# Altium footprint library HARTING Footprints.PcbLib: 317 footprints (part 4 of 20)
Each footprint in its own frame and in the unit in brackets; x right, y up, seen from the top. Pads: shape width x height; smd on the part's side, far side on the other; paste and mask are expansions set on the pad; w line width, h text height; cw(c..) or ccw(c..) is an arc to the next point about the centre after c.
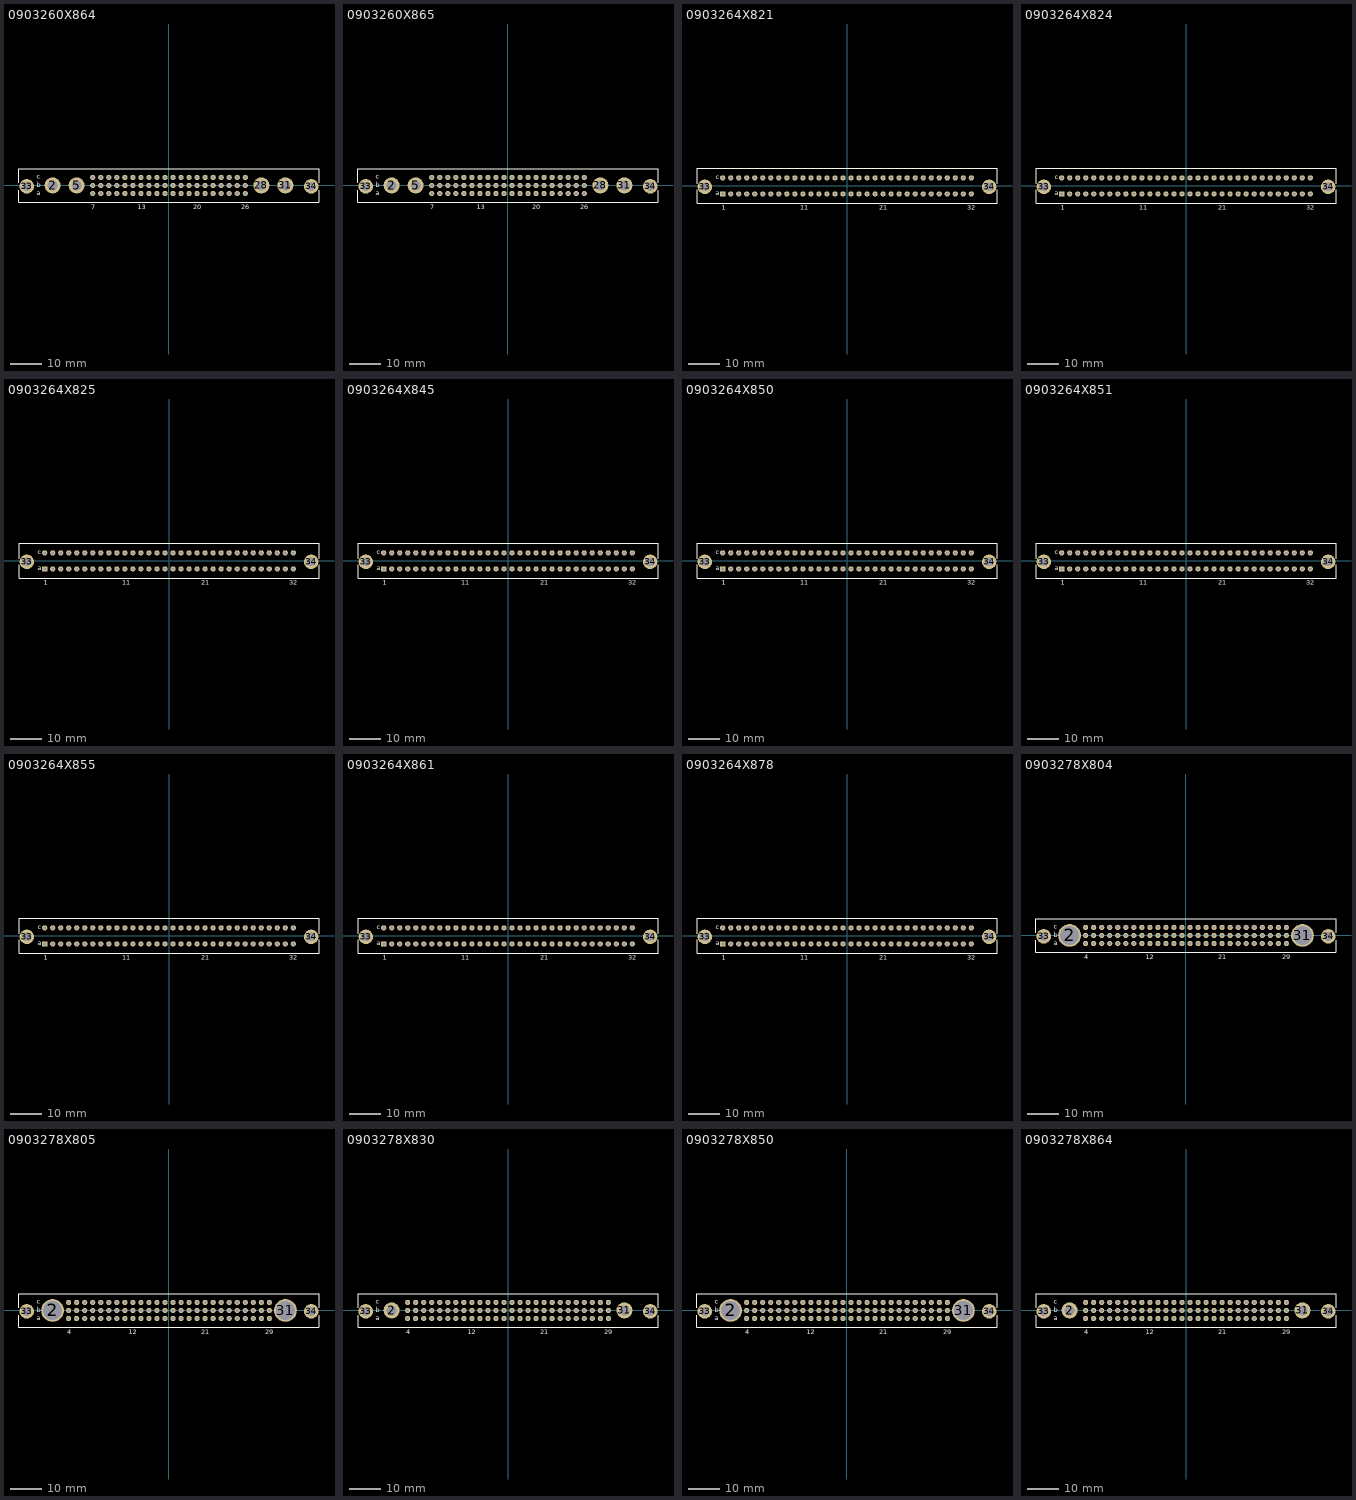
[diagram p3: the footprints below, top view; thin cyan lines are the x and y axes]

## 0903260X864 [mm] "Connector; DIN 41612, Type M-Flat, Thru-Hole; Rows a+b+c, 60 Position; Vertical"
height 12.6
pads (66):
  round 5.1 hole 3.1: 2(-36.83,0) 5(-29.21,0) 28(29.21,0) 31(36.83,0)
  round 4.6 hole 2.8: 33(-45,-0.3) 34(45,-0.3)
  round 1.65 hole 1: A7(-24.13,-2.54) A8(-21.59,-2.54) A9(-19.05,-2.54) A10(-16.51,-2.54) A11(-13.97,-2.54) A12(-11.43,-2.54) A13(-8.89,-2.54) A14(-6.35,-2.54) A15(-3.81,-2.54) A16(-1.27,-2.54) A17(1.27,-2.54) A18(3.81,-2.54) A19(6.35,-2.54) A20(8.89,-2.54) A21(11.43,-2.54) A22(13.97,-2.54) A23(16.51,-2.54) A24(19.05,-2.54) A25(21.59,-2.54) A26(24.13,-2.54) B7(-24.13,0) B8(-21.59,0) B9(-19.05,0) B10(-16.51,0) B11(-13.97,0) B12(-11.43,0) B13(-8.89,0) B14(-6.35,0) B15(-3.81,0) B16(-1.27,0) B17(1.27,0) B18(3.81,0) B19(6.35,0) B20(8.89,0) B21(11.43,0) B22(13.97,0) B23(16.51,0) B24(19.05,0) B25(21.59,0) B26(24.13,0) C7(-24.13,2.54) C8(-21.59,2.54) C9(-19.05,2.54) C10(-16.51,2.54) C11(-13.97,2.54) C12(-11.43,2.54) C13(-8.89,2.54) C14(-6.35,2.54) C15(-3.81,2.54) C16(-1.27,2.54) C17(1.27,2.54) C18(3.81,2.54) C19(6.35,2.54) C20(8.89,2.54) C21(11.43,2.54) C22(13.97,2.54) C23(16.51,2.54) C24(19.05,2.54) C25(21.59,2.54) C26(24.13,2.54)
Top Overlay:
  lines w0.2: -47.45,-1.5 -47.45,-5.25 47.45,-5.25 47.45,-1.5 ; -47.45,0.9 -47.45,5.25 47.45,5.25 47.45,0.9
  text "20" at 7.64,-7.5 h1.5
  text "13" at -9.89,-7.5 h1.5
  text "26" at 22.88,-7.5 h1.5
  text "c" at -41.88,2.04 h1.5
  text "b" at -41.88,-0.5 h1.5
  text "a" at -41.88,-3.04 h1.5
  text "7" at -24.63,-7.5 h1.5

## 0903260X865 [mm] "Connector; DIN 41612, Type M-Flat, Thru-Hole; Rows a+b+c, 60 Position; Vertical"
height 12.6
pads (66):
  round 5.1 hole 3.1: 2(-36.83,0) 5(-29.21,0) 28(29.21,0) 31(36.83,0)
  round 4.6 hole 2.8: 33(-45,-0.3) 34(45,-0.3)
  round 1.65 hole 1: A7(-24.13,-2.54) A8(-21.59,-2.54) A9(-19.05,-2.54) A10(-16.51,-2.54) A11(-13.97,-2.54) A12(-11.43,-2.54) A13(-8.89,-2.54) A14(-6.35,-2.54) A15(-3.81,-2.54) A16(-1.27,-2.54) A17(1.27,-2.54) A18(3.81,-2.54) A19(6.35,-2.54) A20(8.89,-2.54) A21(11.43,-2.54) A22(13.97,-2.54) A23(16.51,-2.54) A24(19.05,-2.54) A25(21.59,-2.54) A26(24.13,-2.54) B7(-24.13,0) B8(-21.59,0) B9(-19.05,0) B10(-16.51,0) B11(-13.97,0) B12(-11.43,0) B13(-8.89,0) B14(-6.35,0) B15(-3.81,0) B16(-1.27,0) B17(1.27,0) B18(3.81,0) B19(6.35,0) B20(8.89,0) B21(11.43,0) B22(13.97,0) B23(16.51,0) B24(19.05,0) B25(21.59,0) B26(24.13,0) C7(-24.13,2.54) C8(-21.59,2.54) C9(-19.05,2.54) C10(-16.51,2.54) C11(-13.97,2.54) C12(-11.43,2.54) C13(-8.89,2.54) C14(-6.35,2.54) C15(-3.81,2.54) C16(-1.27,2.54) C17(1.27,2.54) C18(3.81,2.54) C19(6.35,2.54) C20(8.89,2.54) C21(11.43,2.54) C22(13.97,2.54) C23(16.51,2.54) C24(19.05,2.54) C25(21.59,2.54) C26(24.13,2.54)
Top Overlay:
  lines w0.2: -47.45,-1.5 -47.45,-5.25 47.45,-5.25 47.45,-1.5 ; -47.45,0.9 -47.45,5.25 47.45,5.25 47.45,0.9
  text "20" at 7.64,-7.5 h1.5
  text "13" at -9.89,-7.5 h1.5
  text "26" at 22.88,-7.5 h1.5
  text "c" at -41.88,2.04 h1.5
  text "b" at -41.88,-0.5 h1.5
  text "a" at -41.88,-3.04 h1.5
  text "7" at -24.63,-7.5 h1.5

## 0903264X821 [mm] "Connector; DIN 41612, Type C, Thru-Hole; Rows a+c, 64 Position; Vertical"
height 11.6
pads (66):
  round 4.6 hole 2.8: 33(-45,-0.3) 34(45,-0.3)
  rect 1.65x1.65 hole 1: A1(-39.37,-2.54)
  round 1.65 hole 1: A2(-36.83,-2.54) A3(-34.29,-2.54) A4(-31.75,-2.54) A5(-29.21,-2.54) A6(-26.67,-2.54) A7(-24.13,-2.54) A8(-21.59,-2.54) A9(-19.05,-2.54) A10(-16.51,-2.54) A11(-13.97,-2.54) A12(-11.43,-2.54) A13(-8.89,-2.54) A14(-6.35,-2.54) A15(-3.81,-2.54) A16(-1.27,-2.54) A17(1.27,-2.54) A18(3.81,-2.54) A19(6.35,-2.54) A20(8.89,-2.54) A21(11.43,-2.54) A22(13.97,-2.54) A23(16.51,-2.54) A24(19.05,-2.54) A25(21.59,-2.54) A26(24.13,-2.54) A27(26.67,-2.54) A28(29.21,-2.54) A29(31.75,-2.54) A30(34.29,-2.54) A31(36.83,-2.54) A32(39.37,-2.54) C1(-39.37,2.54) C2(-36.83,2.54) C3(-34.29,2.54) C4(-31.75,2.54) C5(-29.21,2.54) C6(-26.67,2.54) C7(-24.13,2.54) C8(-21.59,2.54) C9(-19.05,2.54) C10(-16.51,2.54) C11(-13.97,2.54) C12(-11.43,2.54) C13(-8.89,2.54) C14(-6.35,2.54) C15(-3.81,2.54) C16(-1.27,2.54) C17(1.27,2.54) C18(3.81,2.54) C19(6.35,2.54) C20(8.89,2.54) C21(11.43,2.54) C22(13.97,2.54) C23(16.51,2.54) C24(19.05,2.54) C25(21.59,2.54) C26(24.13,2.54) C27(26.67,2.54) C28(29.21,2.54) C29(31.75,2.54) C30(34.29,2.54) C31(36.83,2.54) C32(39.37,2.54)
Top Overlay:
  lines w0.2: -47.5,-1.3 -47.5,-5.55 47.5,-5.55 47.5,-1.3 ; -47.5,0.7 -47.5,5.55 47.5,5.55 47.5,0.7
  text "21" at 10.18,-7.525 h1.5
  text "11" at -14.82,-7.525 h1.5
  text "32" at 38.12,-7.525 h1.5
  text "c" at -41.58,2.04 h1.5
  text "a" at -41.58,-3.04 h1.5
  text "1" at -39.62,-7.525 h1.5

## 0903264X824 [mm] "Connector; DIN 41612, Type C, Thru-Hole; Rows a+c, 64 Position; Vertical"
height 11.6
pads (66):
  round 4.6 hole 2.8: 33(-45,-0.3) 34(45,-0.3)
  rect 1.65x1.65 hole 1: A1(-39.37,-2.54)
  round 1.65 hole 1: A2(-36.83,-2.54) A3(-34.29,-2.54) A4(-31.75,-2.54) A5(-29.21,-2.54) A6(-26.67,-2.54) A7(-24.13,-2.54) A8(-21.59,-2.54) A9(-19.05,-2.54) A10(-16.51,-2.54) A11(-13.97,-2.54) A12(-11.43,-2.54) A13(-8.89,-2.54) A14(-6.35,-2.54) A15(-3.81,-2.54) A16(-1.27,-2.54) A17(1.27,-2.54) A18(3.81,-2.54) A19(6.35,-2.54) A20(8.89,-2.54) A21(11.43,-2.54) A22(13.97,-2.54) A23(16.51,-2.54) A24(19.05,-2.54) A25(21.59,-2.54) A26(24.13,-2.54) A27(26.67,-2.54) A28(29.21,-2.54) A29(31.75,-2.54) A30(34.29,-2.54) A31(36.83,-2.54) A32(39.37,-2.54) C1(-39.37,2.54) C2(-36.83,2.54) C3(-34.29,2.54) C4(-31.75,2.54) C5(-29.21,2.54) C6(-26.67,2.54) C7(-24.13,2.54) C8(-21.59,2.54) C9(-19.05,2.54) C10(-16.51,2.54) C11(-13.97,2.54) C12(-11.43,2.54) C13(-8.89,2.54) C14(-6.35,2.54) C15(-3.81,2.54) C16(-1.27,2.54) C17(1.27,2.54) C18(3.81,2.54) C19(6.35,2.54) C20(8.89,2.54) C21(11.43,2.54) C22(13.97,2.54) C23(16.51,2.54) C24(19.05,2.54) C25(21.59,2.54) C26(24.13,2.54) C27(26.67,2.54) C28(29.21,2.54) C29(31.75,2.54) C30(34.29,2.54) C31(36.83,2.54) C32(39.37,2.54)
Top Overlay:
  lines w0.2: -47.5,-1.3 -47.5,-5.55 47.5,-5.55 47.5,-1.3 ; -47.5,0.7 -47.5,5.55 47.5,5.55 47.5,0.7
  text "21" at 10.18,-7.525 h1.5
  text "11" at -14.82,-7.525 h1.5
  text "32" at 38.12,-7.525 h1.5
  text "c" at -41.58,2.04 h1.5
  text "a" at -41.58,-3.04 h1.5
  text "1" at -39.62,-7.525 h1.5

## 0903264X825 [mm] "Connector; DIN 41612, Type C, Thru-Hole; Rows a+c, 64 Position; Vertical"
height 11.6
pads (66):
  round 4.6 hole 2.8: 33(-45,-0.3) 34(45,-0.3)
  rect 1.65x1.65 hole 1: A1(-39.37,-2.54)
  round 1.65 hole 1: A2(-36.83,-2.54) A3(-34.29,-2.54) A4(-31.75,-2.54) A5(-29.21,-2.54) A6(-26.67,-2.54) A7(-24.13,-2.54) A8(-21.59,-2.54) A9(-19.05,-2.54) A10(-16.51,-2.54) A11(-13.97,-2.54) A12(-11.43,-2.54) A13(-8.89,-2.54) A14(-6.35,-2.54) A15(-3.81,-2.54) A16(-1.27,-2.54) A17(1.27,-2.54) A18(3.81,-2.54) A19(6.35,-2.54) A20(8.89,-2.54) A21(11.43,-2.54) A22(13.97,-2.54) A23(16.51,-2.54) A24(19.05,-2.54) A25(21.59,-2.54) A26(24.13,-2.54) A27(26.67,-2.54) A28(29.21,-2.54) A29(31.75,-2.54) A30(34.29,-2.54) A31(36.83,-2.54) A32(39.37,-2.54) C1(-39.37,2.54) C2(-36.83,2.54) C3(-34.29,2.54) C4(-31.75,2.54) C5(-29.21,2.54) C6(-26.67,2.54) C7(-24.13,2.54) C8(-21.59,2.54) C9(-19.05,2.54) C10(-16.51,2.54) C11(-13.97,2.54) C12(-11.43,2.54) C13(-8.89,2.54) C14(-6.35,2.54) C15(-3.81,2.54) C16(-1.27,2.54) C17(1.27,2.54) C18(3.81,2.54) C19(6.35,2.54) C20(8.89,2.54) C21(11.43,2.54) C22(13.97,2.54) C23(16.51,2.54) C24(19.05,2.54) C25(21.59,2.54) C26(24.13,2.54) C27(26.67,2.54) C28(29.21,2.54) C29(31.75,2.54) C30(34.29,2.54) C31(36.83,2.54) C32(39.37,2.54)
Top Overlay:
  lines w0.2: -47.5,-1.3 -47.5,-5.55 47.5,-5.55 47.5,-1.3 ; -47.5,0.7 -47.5,5.55 47.5,5.55 47.5,0.7
  text "21" at 10.18,-7.525 h1.5
  text "11" at -14.82,-7.525 h1.5
  text "32" at 38.12,-7.525 h1.5
  text "c" at -41.58,2.04 h1.5
  text "a" at -41.58,-3.04 h1.5
  text "1" at -39.62,-7.525 h1.5

## 0903264X845 [mm] "Connector; DIN 41612, Type C, Thru-Hole; Rows a+c, 64 Position; Vertical"
height 11.6
pads (66):
  round 4.6 hole 2.8: 33(-45,-0.3) 34(45,-0.3)
  rect 1.65x1.65 hole 1: A1(-39.37,-2.54)
  round 1.65 hole 1: A2(-36.83,-2.54) A3(-34.29,-2.54) A4(-31.75,-2.54) A5(-29.21,-2.54) A6(-26.67,-2.54) A7(-24.13,-2.54) A8(-21.59,-2.54) A9(-19.05,-2.54) A10(-16.51,-2.54) A11(-13.97,-2.54) A12(-11.43,-2.54) A13(-8.89,-2.54) A14(-6.35,-2.54) A15(-3.81,-2.54) A16(-1.27,-2.54) A17(1.27,-2.54) A18(3.81,-2.54) A19(6.35,-2.54) A20(8.89,-2.54) A21(11.43,-2.54) A22(13.97,-2.54) A23(16.51,-2.54) A24(19.05,-2.54) A25(21.59,-2.54) A26(24.13,-2.54) A27(26.67,-2.54) A28(29.21,-2.54) A29(31.75,-2.54) A30(34.29,-2.54) A31(36.83,-2.54) A32(39.37,-2.54) C1(-39.37,2.54) C2(-36.83,2.54) C3(-34.29,2.54) C4(-31.75,2.54) C5(-29.21,2.54) C6(-26.67,2.54) C7(-24.13,2.54) C8(-21.59,2.54) C9(-19.05,2.54) C10(-16.51,2.54) C11(-13.97,2.54) C12(-11.43,2.54) C13(-8.89,2.54) C14(-6.35,2.54) C15(-3.81,2.54) C16(-1.27,2.54) C17(1.27,2.54) C18(3.81,2.54) C19(6.35,2.54) C20(8.89,2.54) C21(11.43,2.54) C22(13.97,2.54) C23(16.51,2.54) C24(19.05,2.54) C25(21.59,2.54) C26(24.13,2.54) C27(26.67,2.54) C28(29.21,2.54) C29(31.75,2.54) C30(34.29,2.54) C31(36.83,2.54) C32(39.37,2.54)
Top Overlay:
  lines w0.2: -47.5,-1.3 -47.5,-5.55 47.5,-5.55 47.5,-1.3 ; -47.5,0.7 -47.5,5.55 47.5,5.55 47.5,0.7
  text "21" at 10.18,-7.525 h1.5
  text "11" at -14.82,-7.525 h1.5
  text "32" at 38.12,-7.525 h1.5
  text "c" at -41.58,2.04 h1.5
  text "a" at -41.58,-3.04 h1.5
  text "1" at -39.62,-7.525 h1.5

## 0903264X850 [mm] "Connector; DIN 41612, Type C, Thru-Hole; Rows a+c, 64 Position; Vertical"
height 11.6
pads (66):
  round 4.6 hole 2.8: 33(-45,-0.3) 34(45,-0.3)
  rect 1.65x1.65 hole 1: A1(-39.37,-2.54)
  round 1.65 hole 1: A2(-36.83,-2.54) A3(-34.29,-2.54) A4(-31.75,-2.54) A5(-29.21,-2.54) A6(-26.67,-2.54) A7(-24.13,-2.54) A8(-21.59,-2.54) A9(-19.05,-2.54) A10(-16.51,-2.54) A11(-13.97,-2.54) A12(-11.43,-2.54) A13(-8.89,-2.54) A14(-6.35,-2.54) A15(-3.81,-2.54) A16(-1.27,-2.54) A17(1.27,-2.54) A18(3.81,-2.54) A19(6.35,-2.54) A20(8.89,-2.54) A21(11.43,-2.54) A22(13.97,-2.54) A23(16.51,-2.54) A24(19.05,-2.54) A25(21.59,-2.54) A26(24.13,-2.54) A27(26.67,-2.54) A28(29.21,-2.54) A29(31.75,-2.54) A30(34.29,-2.54) A31(36.83,-2.54) A32(39.37,-2.54) C1(-39.37,2.54) C2(-36.83,2.54) C3(-34.29,2.54) C4(-31.75,2.54) C5(-29.21,2.54) C6(-26.67,2.54) C7(-24.13,2.54) C8(-21.59,2.54) C9(-19.05,2.54) C10(-16.51,2.54) C11(-13.97,2.54) C12(-11.43,2.54) C13(-8.89,2.54) C14(-6.35,2.54) C15(-3.81,2.54) C16(-1.27,2.54) C17(1.27,2.54) C18(3.81,2.54) C19(6.35,2.54) C20(8.89,2.54) C21(11.43,2.54) C22(13.97,2.54) C23(16.51,2.54) C24(19.05,2.54) C25(21.59,2.54) C26(24.13,2.54) C27(26.67,2.54) C28(29.21,2.54) C29(31.75,2.54) C30(34.29,2.54) C31(36.83,2.54) C32(39.37,2.54)
Top Overlay:
  lines w0.2: -47.5,-1.3 -47.5,-5.55 47.5,-5.55 47.5,-1.3 ; -47.5,0.7 -47.5,5.55 47.5,5.55 47.5,0.7
  text "21" at 10.18,-7.525 h1.5
  text "11" at -14.82,-7.525 h1.5
  text "32" at 38.12,-7.525 h1.5
  text "c" at -41.58,2.04 h1.5
  text "a" at -41.58,-3.04 h1.5
  text "1" at -39.62,-7.525 h1.5

## 0903264X851 [mm] "Connector; DIN 41612, Type C, Thru-Hole; Rows a+c, 64 Position; Vertical"
height 11.6
pads (66):
  round 4.6 hole 2.8: 33(-45,-0.3) 34(45,-0.3)
  rect 1.65x1.65 hole 1: A1(-39.37,-2.54)
  round 1.65 hole 1: A2(-36.83,-2.54) A3(-34.29,-2.54) A4(-31.75,-2.54) A5(-29.21,-2.54) A6(-26.67,-2.54) A7(-24.13,-2.54) A8(-21.59,-2.54) A9(-19.05,-2.54) A10(-16.51,-2.54) A11(-13.97,-2.54) A12(-11.43,-2.54) A13(-8.89,-2.54) A14(-6.35,-2.54) A15(-3.81,-2.54) A16(-1.27,-2.54) A17(1.27,-2.54) A18(3.81,-2.54) A19(6.35,-2.54) A20(8.89,-2.54) A21(11.43,-2.54) A22(13.97,-2.54) A23(16.51,-2.54) A24(19.05,-2.54) A25(21.59,-2.54) A26(24.13,-2.54) A27(26.67,-2.54) A28(29.21,-2.54) A29(31.75,-2.54) A30(34.29,-2.54) A31(36.83,-2.54) A32(39.37,-2.54) C1(-39.37,2.54) C2(-36.83,2.54) C3(-34.29,2.54) C4(-31.75,2.54) C5(-29.21,2.54) C6(-26.67,2.54) C7(-24.13,2.54) C8(-21.59,2.54) C9(-19.05,2.54) C10(-16.51,2.54) C11(-13.97,2.54) C12(-11.43,2.54) C13(-8.89,2.54) C14(-6.35,2.54) C15(-3.81,2.54) C16(-1.27,2.54) C17(1.27,2.54) C18(3.81,2.54) C19(6.35,2.54) C20(8.89,2.54) C21(11.43,2.54) C22(13.97,2.54) C23(16.51,2.54) C24(19.05,2.54) C25(21.59,2.54) C26(24.13,2.54) C27(26.67,2.54) C28(29.21,2.54) C29(31.75,2.54) C30(34.29,2.54) C31(36.83,2.54) C32(39.37,2.54)
Top Overlay:
  lines w0.2: -47.5,-1.3 -47.5,-5.55 47.5,-5.55 47.5,-1.3 ; -47.5,0.7 -47.5,5.55 47.5,5.55 47.5,0.7
  text "21" at 10.18,-7.525 h1.5
  text "11" at -14.82,-7.525 h1.5
  text "32" at 38.12,-7.525 h1.5
  text "c" at -41.58,2.04 h1.5
  text "a" at -41.58,-3.04 h1.5
  text "1" at -39.62,-7.525 h1.5

## 0903264X855 [mm] "Connector; DIN 41612, Type C, Thru-Hole; Rows a+c, 64 Position; Vertical"
height 11.6
pads (66):
  round 4.6 hole 2.8: 33(-45,-0.3) 34(45,-0.3)
  rect 1.65x1.65 hole 1: A1(-39.37,-2.54)
  round 1.65 hole 1: A2(-36.83,-2.54) A3(-34.29,-2.54) A4(-31.75,-2.54) A5(-29.21,-2.54) A6(-26.67,-2.54) A7(-24.13,-2.54) A8(-21.59,-2.54) A9(-19.05,-2.54) A10(-16.51,-2.54) A11(-13.97,-2.54) A12(-11.43,-2.54) A13(-8.89,-2.54) A14(-6.35,-2.54) A15(-3.81,-2.54) A16(-1.27,-2.54) A17(1.27,-2.54) A18(3.81,-2.54) A19(6.35,-2.54) A20(8.89,-2.54) A21(11.43,-2.54) A22(13.97,-2.54) A23(16.51,-2.54) A24(19.05,-2.54) A25(21.59,-2.54) A26(24.13,-2.54) A27(26.67,-2.54) A28(29.21,-2.54) A29(31.75,-2.54) A30(34.29,-2.54) A31(36.83,-2.54) A32(39.37,-2.54) C1(-39.37,2.54) C2(-36.83,2.54) C3(-34.29,2.54) C4(-31.75,2.54) C5(-29.21,2.54) C6(-26.67,2.54) C7(-24.13,2.54) C8(-21.59,2.54) C9(-19.05,2.54) C10(-16.51,2.54) C11(-13.97,2.54) C12(-11.43,2.54) C13(-8.89,2.54) C14(-6.35,2.54) C15(-3.81,2.54) C16(-1.27,2.54) C17(1.27,2.54) C18(3.81,2.54) C19(6.35,2.54) C20(8.89,2.54) C21(11.43,2.54) C22(13.97,2.54) C23(16.51,2.54) C24(19.05,2.54) C25(21.59,2.54) C26(24.13,2.54) C27(26.67,2.54) C28(29.21,2.54) C29(31.75,2.54) C30(34.29,2.54) C31(36.83,2.54) C32(39.37,2.54)
Top Overlay:
  lines w0.2: -47.5,-1.3 -47.5,-5.55 47.5,-5.55 47.5,-1.3 ; -47.5,0.7 -47.5,5.55 47.5,5.55 47.5,0.7
  text "21" at 10.18,-7.525 h1.5
  text "11" at -14.82,-7.525 h1.5
  text "32" at 38.12,-7.525 h1.5
  text "c" at -41.58,2.04 h1.5
  text "a" at -41.58,-3.04 h1.5
  text "1" at -39.62,-7.525 h1.5

## 0903264X861 [mm] "Connector; DIN 41612, Type C, Thru-Hole; Rows a+c, 64 Position; Vertical"
height 11.6
pads (66):
  round 4.6 hole 2.8: 33(-45,-0.3) 34(45,-0.3)
  rect 1.65x1.65 hole 1: A1(-39.37,-2.54)
  round 1.65 hole 1: A2(-36.83,-2.54) A3(-34.29,-2.54) A4(-31.75,-2.54) A5(-29.21,-2.54) A6(-26.67,-2.54) A7(-24.13,-2.54) A8(-21.59,-2.54) A9(-19.05,-2.54) A10(-16.51,-2.54) A11(-13.97,-2.54) A12(-11.43,-2.54) A13(-8.89,-2.54) A14(-6.35,-2.54) A15(-3.81,-2.54) A16(-1.27,-2.54) A17(1.27,-2.54) A18(3.81,-2.54) A19(6.35,-2.54) A20(8.89,-2.54) A21(11.43,-2.54) A22(13.97,-2.54) A23(16.51,-2.54) A24(19.05,-2.54) A25(21.59,-2.54) A26(24.13,-2.54) A27(26.67,-2.54) A28(29.21,-2.54) A29(31.75,-2.54) A30(34.29,-2.54) A31(36.83,-2.54) A32(39.37,-2.54) C1(-39.37,2.54) C2(-36.83,2.54) C3(-34.29,2.54) C4(-31.75,2.54) C5(-29.21,2.54) C6(-26.67,2.54) C7(-24.13,2.54) C8(-21.59,2.54) C9(-19.05,2.54) C10(-16.51,2.54) C11(-13.97,2.54) C12(-11.43,2.54) C13(-8.89,2.54) C14(-6.35,2.54) C15(-3.81,2.54) C16(-1.27,2.54) C17(1.27,2.54) C18(3.81,2.54) C19(6.35,2.54) C20(8.89,2.54) C21(11.43,2.54) C22(13.97,2.54) C23(16.51,2.54) C24(19.05,2.54) C25(21.59,2.54) C26(24.13,2.54) C27(26.67,2.54) C28(29.21,2.54) C29(31.75,2.54) C30(34.29,2.54) C31(36.83,2.54) C32(39.37,2.54)
Top Overlay:
  lines w0.2: -47.5,-1.3 -47.5,-5.55 47.5,-5.55 47.5,-1.3 ; -47.5,0.7 -47.5,5.55 47.5,5.55 47.5,0.7
  text "21" at 10.18,-7.525 h1.5
  text "11" at -14.82,-7.525 h1.5
  text "32" at 38.12,-7.525 h1.5
  text "c" at -41.58,2.04 h1.5
  text "a" at -41.58,-3.04 h1.5
  text "1" at -39.62,-7.525 h1.5

## 0903264X878 [mm] "Connector; DIN 41612, Type C, Thru-Hole; Rows a+c, 64 Position; Vertical"
height 11.6
pads (66):
  round 4.6 hole 2.8: 33(-45,-0.3) 34(45,-0.3)
  rect 1.65x1.65 hole 1: A1(-39.37,-2.54)
  round 1.65 hole 1: A2(-36.83,-2.54) A3(-34.29,-2.54) A4(-31.75,-2.54) A5(-29.21,-2.54) A6(-26.67,-2.54) A7(-24.13,-2.54) A8(-21.59,-2.54) A9(-19.05,-2.54) A10(-16.51,-2.54) A11(-13.97,-2.54) A12(-11.43,-2.54) A13(-8.89,-2.54) A14(-6.35,-2.54) A15(-3.81,-2.54) A16(-1.27,-2.54) A17(1.27,-2.54) A18(3.81,-2.54) A19(6.35,-2.54) A20(8.89,-2.54) A21(11.43,-2.54) A22(13.97,-2.54) A23(16.51,-2.54) A24(19.05,-2.54) A25(21.59,-2.54) A26(24.13,-2.54) A27(26.67,-2.54) A28(29.21,-2.54) A29(31.75,-2.54) A30(34.29,-2.54) A31(36.83,-2.54) A32(39.37,-2.54) C1(-39.37,2.54) C2(-36.83,2.54) C3(-34.29,2.54) C4(-31.75,2.54) C5(-29.21,2.54) C6(-26.67,2.54) C7(-24.13,2.54) C8(-21.59,2.54) C9(-19.05,2.54) C10(-16.51,2.54) C11(-13.97,2.54) C12(-11.43,2.54) C13(-8.89,2.54) C14(-6.35,2.54) C15(-3.81,2.54) C16(-1.27,2.54) C17(1.27,2.54) C18(3.81,2.54) C19(6.35,2.54) C20(8.89,2.54) C21(11.43,2.54) C22(13.97,2.54) C23(16.51,2.54) C24(19.05,2.54) C25(21.59,2.54) C26(24.13,2.54) C27(26.67,2.54) C28(29.21,2.54) C29(31.75,2.54) C30(34.29,2.54) C31(36.83,2.54) C32(39.37,2.54)
Top Overlay:
  lines w0.2: -47.5,-1.3 -47.5,-5.55 47.5,-5.55 47.5,-1.3 ; -47.5,0.7 -47.5,5.55 47.5,5.55 47.5,0.7
  text "21" at 10.18,-7.525 h1.5
  text "11" at -14.82,-7.525 h1.5
  text "32" at 38.12,-7.525 h1.5
  text "c" at -41.58,2.04 h1.5
  text "a" at -41.58,-3.04 h1.5
  text "1" at -39.62,-7.525 h1.5

## 0903278X804 [mm] "Connector; DIN 41612, Type M, Thru-Hole; Rows a+b+c, 78 Position; Vertical"
height 12.6
pads (82):
  round 7.2 hole 6: 2(-36.83,0) 31(36.83,0)
  round 4.6 hole 2.8: 33(-45,-0.3) 34(45,-0.3)
  round 1.65 hole 1: A4(-31.75,-2.54) A5(-29.21,-2.54) A6(-26.67,-2.54) A7(-24.13,-2.54) A8(-21.59,-2.54) A9(-19.05,-2.54) A10(-16.51,-2.54) A11(-13.97,-2.54) A12(-11.43,-2.54) A13(-8.89,-2.54) A14(-6.35,-2.54) A15(-3.81,-2.54) A16(-1.27,-2.54) A17(1.27,-2.54) A18(3.81,-2.54) A19(6.35,-2.54) A20(8.89,-2.54) A21(11.43,-2.54) A22(13.97,-2.54) A23(16.51,-2.54) A24(19.05,-2.54) A25(21.59,-2.54) A26(24.13,-2.54) A27(26.67,-2.54) A28(29.21,-2.54) A29(31.75,-2.54) B4(-31.75,0) B5(-29.21,0) B6(-26.67,0) B7(-24.13,0) B8(-21.59,0) B9(-19.05,0) B10(-16.51,0) B11(-13.97,0) B12(-11.43,0) B13(-8.89,0) B14(-6.35,0) B15(-3.81,0) B16(-1.27,0) B17(1.27,0) B18(3.81,0) B19(6.35,0) B20(8.89,0) B21(11.43,0) B22(13.97,0) B23(16.51,0) B24(19.05,0) B25(21.59,0) B26(24.13,0) B27(26.67,0) B28(29.21,0) B29(31.75,0) C4(-31.75,2.54) C5(-29.21,2.54) C6(-26.67,2.54) C7(-24.13,2.54) C8(-21.59,2.54) C9(-19.05,2.54) C10(-16.51,2.54) C11(-13.97,2.54) C12(-11.43,2.54) C13(-8.89,2.54) C14(-6.35,2.54) C15(-3.81,2.54) C16(-1.27,2.54) C17(1.27,2.54) C18(3.81,2.54) C19(6.35,2.54) C20(8.89,2.54) C21(11.43,2.54) C22(13.97,2.54) C23(16.51,2.54) C24(19.05,2.54) C25(21.59,2.54) C26(24.13,2.54) C27(26.67,2.54) C28(29.21,2.54) C29(31.75,2.54)
Top Overlay:
  lines w0.2: -47.45,-1.5 -47.45,-5.25 47.45,-5.25 47.45,-1.5 ; -47.45,0.9 -47.45,5.25 47.45,5.25 47.45,0.9
  text "21" at 10.18,-7.5 h1.5
  text "12" at -12.68,-7.5 h1.5
  text "29" at 30.5,-7.5 h1.5
  text "c" at -41.88,2.04 h1.5
  text "b" at -41.88,-0.5 h1.5
  text "a" at -41.88,-3.04 h1.5
  text "4" at -32.25,-7.5 h1.5

## 0903278X805 [mm] "Connector; DIN 41612, Type M, Thru-Hole; Rows a+b+c, 78 Position; Vertical"
height 12.6
pads (82):
  round 7.2 hole 6: 2(-36.83,0) 31(36.83,0)
  round 4.6 hole 2.8: 33(-45,-0.3) 34(45,-0.3)
  round 1.65 hole 1: A4(-31.75,-2.54) A5(-29.21,-2.54) A6(-26.67,-2.54) A7(-24.13,-2.54) A8(-21.59,-2.54) A9(-19.05,-2.54) A10(-16.51,-2.54) A11(-13.97,-2.54) A12(-11.43,-2.54) A13(-8.89,-2.54) A14(-6.35,-2.54) A15(-3.81,-2.54) A16(-1.27,-2.54) A17(1.27,-2.54) A18(3.81,-2.54) A19(6.35,-2.54) A20(8.89,-2.54) A21(11.43,-2.54) A22(13.97,-2.54) A23(16.51,-2.54) A24(19.05,-2.54) A25(21.59,-2.54) A26(24.13,-2.54) A27(26.67,-2.54) A28(29.21,-2.54) A29(31.75,-2.54) B4(-31.75,0) B5(-29.21,0) B6(-26.67,0) B7(-24.13,0) B8(-21.59,0) B9(-19.05,0) B10(-16.51,0) B11(-13.97,0) B12(-11.43,0) B13(-8.89,0) B14(-6.35,0) B15(-3.81,0) B16(-1.27,0) B17(1.27,0) B18(3.81,0) B19(6.35,0) B20(8.89,0) B21(11.43,0) B22(13.97,0) B23(16.51,0) B24(19.05,0) B25(21.59,0) B26(24.13,0) B27(26.67,0) B28(29.21,0) B29(31.75,0) C4(-31.75,2.54) C5(-29.21,2.54) C6(-26.67,2.54) C7(-24.13,2.54) C8(-21.59,2.54) C9(-19.05,2.54) C10(-16.51,2.54) C11(-13.97,2.54) C12(-11.43,2.54) C13(-8.89,2.54) C14(-6.35,2.54) C15(-3.81,2.54) C16(-1.27,2.54) C17(1.27,2.54) C18(3.81,2.54) C19(6.35,2.54) C20(8.89,2.54) C21(11.43,2.54) C22(13.97,2.54) C23(16.51,2.54) C24(19.05,2.54) C25(21.59,2.54) C26(24.13,2.54) C27(26.67,2.54) C28(29.21,2.54) C29(31.75,2.54)
Top Overlay:
  lines w0.2: -47.45,-1.5 -47.45,-5.25 47.45,-5.25 47.45,-1.5 ; -47.45,0.9 -47.45,5.25 47.45,5.25 47.45,0.9
  text "21" at 10.18,-7.5 h1.5
  text "12" at -12.68,-7.5 h1.5
  text "29" at 30.5,-7.5 h1.5
  text "c" at -41.88,2.04 h1.5
  text "b" at -41.88,-0.5 h1.5
  text "a" at -41.88,-3.04 h1.5
  text "4" at -32.25,-7.5 h1.5

## 0903278X830 [mm] "Connector; DIN 41612, Type M-Flat, Thru-Hole; Rows a+b+c, 78 Position; Vertical"
height 12.6
pads (82):
  round 5.1 hole 3.1: 2(-36.83,0) 31(36.83,0)
  round 4.6 hole 2.8: 33(-45,-0.3) 34(45,-0.3)
  round 1.65 hole 1: A4(-31.75,-2.54) A5(-29.21,-2.54) A6(-26.67,-2.54) A7(-24.13,-2.54) A8(-21.59,-2.54) A9(-19.05,-2.54) A10(-16.51,-2.54) A11(-13.97,-2.54) A12(-11.43,-2.54) A13(-8.89,-2.54) A14(-6.35,-2.54) A15(-3.81,-2.54) A16(-1.27,-2.54) A17(1.27,-2.54) A18(3.81,-2.54) A19(6.35,-2.54) A20(8.89,-2.54) A21(11.43,-2.54) A22(13.97,-2.54) A23(16.51,-2.54) A24(19.05,-2.54) A25(21.59,-2.54) A26(24.13,-2.54) A27(26.67,-2.54) A28(29.21,-2.54) A29(31.75,-2.54) B4(-31.75,0) B5(-29.21,0) B6(-26.67,0) B7(-24.13,0) B8(-21.59,0) B9(-19.05,0) B10(-16.51,0) B11(-13.97,0) B12(-11.43,0) B13(-8.89,0) B14(-6.35,0) B15(-3.81,0) B16(-1.27,0) B17(1.27,0) B18(3.81,0) B19(6.35,0) B20(8.89,0) B21(11.43,0) B22(13.97,0) B23(16.51,0) B24(19.05,0) B25(21.59,0) B26(24.13,0) B27(26.67,0) B28(29.21,0) B29(31.75,0) C4(-31.75,2.54) C5(-29.21,2.54) C6(-26.67,2.54) C7(-24.13,2.54) C8(-21.59,2.54) C9(-19.05,2.54) C10(-16.51,2.54) C11(-13.97,2.54) C12(-11.43,2.54) C13(-8.89,2.54) C14(-6.35,2.54) C15(-3.81,2.54) C16(-1.27,2.54) C17(1.27,2.54) C18(3.81,2.54) C19(6.35,2.54) C20(8.89,2.54) C21(11.43,2.54) C22(13.97,2.54) C23(16.51,2.54) C24(19.05,2.54) C25(21.59,2.54) C26(24.13,2.54) C27(26.67,2.54) C28(29.21,2.54) C29(31.75,2.54)
Top Overlay:
  lines w0.2: -47.45,-1.5 -47.45,-5.25 47.45,-5.25 47.45,-1.5 ; -47.45,0.9 -47.45,5.25 47.45,5.25 47.45,0.9
  text "4" at -32.25,-7.5 h1.5
  text "a" at -41.88,-3.04 h1.5
  text "b" at -41.88,-0.5 h1.5
  text "c" at -41.88,2.04 h1.5
  text "29" at 30.5,-7.5 h1.5
  text "12" at -12.68,-7.5 h1.5
  text "21" at 10.18,-7.5 h1.5

## 0903278X850 [mm] "Connector; DIN 41612, Type M, Thru-Hole; Rows a+b+c, 78 Position; Vertical"
height 12.6
pads (82):
  round 7.2 hole 6: 2(-36.83,0) 31(36.83,0)
  round 4.6 hole 2.8: 33(-45,-0.3) 34(45,-0.3)
  round 1.65 hole 1: A4(-31.75,-2.54) A5(-29.21,-2.54) A6(-26.67,-2.54) A7(-24.13,-2.54) A8(-21.59,-2.54) A9(-19.05,-2.54) A10(-16.51,-2.54) A11(-13.97,-2.54) A12(-11.43,-2.54) A13(-8.89,-2.54) A14(-6.35,-2.54) A15(-3.81,-2.54) A16(-1.27,-2.54) A17(1.27,-2.54) A18(3.81,-2.54) A19(6.35,-2.54) A20(8.89,-2.54) A21(11.43,-2.54) A22(13.97,-2.54) A23(16.51,-2.54) A24(19.05,-2.54) A25(21.59,-2.54) A26(24.13,-2.54) A27(26.67,-2.54) A28(29.21,-2.54) A29(31.75,-2.54) B4(-31.75,0) B5(-29.21,0) B6(-26.67,0) B7(-24.13,0) B8(-21.59,0) B9(-19.05,0) B10(-16.51,0) B11(-13.97,0) B12(-11.43,0) B13(-8.89,0) B14(-6.35,0) B15(-3.81,0) B16(-1.27,0) B17(1.27,0) B18(3.81,0) B19(6.35,0) B20(8.89,0) B21(11.43,0) B22(13.97,0) B23(16.51,0) B24(19.05,0) B25(21.59,0) B26(24.13,0) B27(26.67,0) B28(29.21,0) B29(31.75,0) C4(-31.75,2.54) C5(-29.21,2.54) C6(-26.67,2.54) C7(-24.13,2.54) C8(-21.59,2.54) C9(-19.05,2.54) C10(-16.51,2.54) C11(-13.97,2.54) C12(-11.43,2.54) C13(-8.89,2.54) C14(-6.35,2.54) C15(-3.81,2.54) C16(-1.27,2.54) C17(1.27,2.54) C18(3.81,2.54) C19(6.35,2.54) C20(8.89,2.54) C21(11.43,2.54) C22(13.97,2.54) C23(16.51,2.54) C24(19.05,2.54) C25(21.59,2.54) C26(24.13,2.54) C27(26.67,2.54) C28(29.21,2.54) C29(31.75,2.54)
Top Overlay:
  lines w0.2: -47.45,-1.5 -47.45,-5.25 47.45,-5.25 47.45,-1.5 ; -47.45,0.9 -47.45,5.25 47.45,5.25 47.45,0.9
  text "21" at 10.18,-7.5 h1.5
  text "12" at -12.68,-7.5 h1.5
  text "29" at 30.5,-7.5 h1.5
  text "c" at -41.88,2.04 h1.5
  text "b" at -41.88,-0.5 h1.5
  text "a" at -41.88,-3.04 h1.5
  text "4" at -32.25,-7.5 h1.5

## 0903278X864 [mm] "Connector; DIN 41612, Type M-Flat, Thru-Hole; Rows a+b+c, 78 Position; Vertical"
height 12.6
pads (82):
  round 5.1 hole 3.1: 2(-36.83,0) 31(36.83,0)
  round 4.6 hole 2.8: 33(-45,-0.3) 34(45,-0.3)
  round 1.65 hole 1: A4(-31.75,-2.54) A5(-29.21,-2.54) A6(-26.67,-2.54) A7(-24.13,-2.54) A8(-21.59,-2.54) A9(-19.05,-2.54) A10(-16.51,-2.54) A11(-13.97,-2.54) A12(-11.43,-2.54) A13(-8.89,-2.54) A14(-6.35,-2.54) A15(-3.81,-2.54) A16(-1.27,-2.54) A17(1.27,-2.54) A18(3.81,-2.54) A19(6.35,-2.54) A20(8.89,-2.54) A21(11.43,-2.54) A22(13.97,-2.54) A23(16.51,-2.54) A24(19.05,-2.54) A25(21.59,-2.54) A26(24.13,-2.54) A27(26.67,-2.54) A28(29.21,-2.54) A29(31.75,-2.54) B4(-31.75,0) B5(-29.21,0) B6(-26.67,0) B7(-24.13,0) B8(-21.59,0) B9(-19.05,0) B10(-16.51,0) B11(-13.97,0) B12(-11.43,0) B13(-8.89,0) B14(-6.35,0) B15(-3.81,0) B16(-1.27,0) B17(1.27,0) B18(3.81,0) B19(6.35,0) B20(8.89,0) B21(11.43,0) B22(13.97,0) B23(16.51,0) B24(19.05,0) B25(21.59,0) B26(24.13,0) B27(26.67,0) B28(29.21,0) B29(31.75,0) C4(-31.75,2.54) C5(-29.21,2.54) C6(-26.67,2.54) C7(-24.13,2.54) C8(-21.59,2.54) C9(-19.05,2.54) C10(-16.51,2.54) C11(-13.97,2.54) C12(-11.43,2.54) C13(-8.89,2.54) C14(-6.35,2.54) C15(-3.81,2.54) C16(-1.27,2.54) C17(1.27,2.54) C18(3.81,2.54) C19(6.35,2.54) C20(8.89,2.54) C21(11.43,2.54) C22(13.97,2.54) C23(16.51,2.54) C24(19.05,2.54) C25(21.59,2.54) C26(24.13,2.54) C27(26.67,2.54) C28(29.21,2.54) C29(31.75,2.54)
Top Overlay:
  lines w0.2: -47.45,-1.5 -47.45,-5.25 47.45,-5.25 47.45,-1.5 ; -47.45,0.9 -47.45,5.25 47.45,5.25 47.45,0.9
  text "4" at -32.25,-7.5 h1.5
  text "a" at -41.88,-3.04 h1.5
  text "b" at -41.88,-0.5 h1.5
  text "c" at -41.88,2.04 h1.5
  text "29" at 30.5,-7.5 h1.5
  text "12" at -12.68,-7.5 h1.5
  text "21" at 10.18,-7.5 h1.5